# Altium schematic symbol library sbattery.SchLib: 19 symbols (part 1 of 2)
Pins are listed as number, name and electrical type; pins without a type are passive.

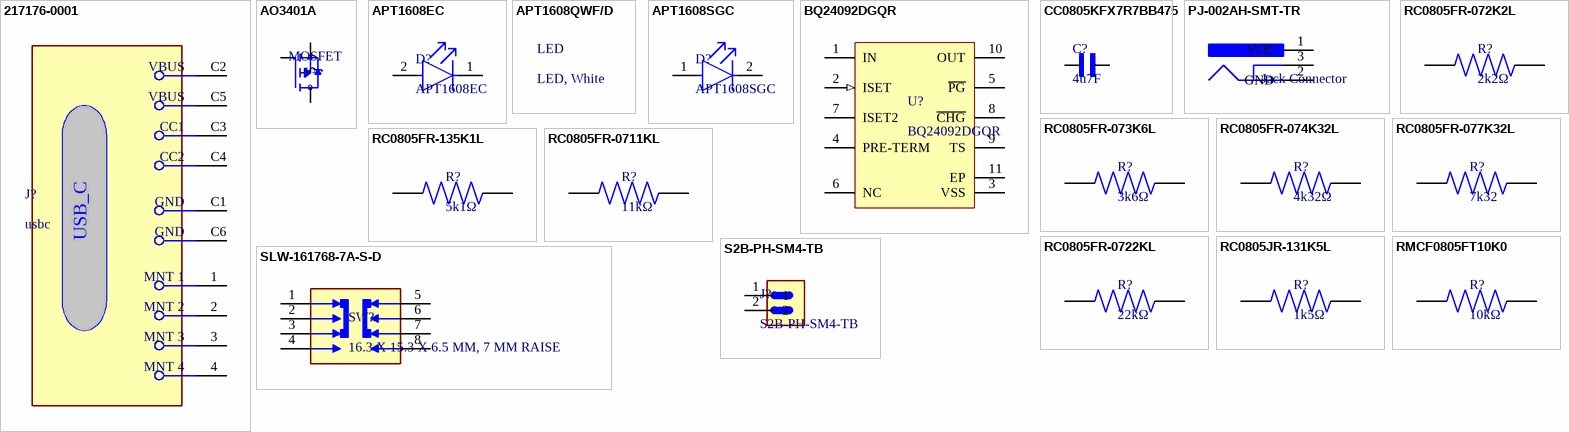
[diagram p0: symbols 217176-0001 to SLW-161768-7A-S-D]

## 217176-0001
designator J?, comment usbc
USB Connector, Receptacle, USB 2.0, USB Type C, 6 Ways, Gold, SMT, Right Angle, Copper Alloy; Manufacturer: Molex; Manufacturer Part Number: 217176-0001; Manufacturer Lifecycle Status: ACTIVE; Contact Resistance: 50mΩ; Current Rating: 1.25A; Gender: Female; Insulation Resistance: 100MΩ; Number of Contacts: 6; Number of Ports: 1; Plating Thickness: 25.4nm; USB Standard: USB 2.0; Voltage Rating: 30V; Supplier: Avnet; Supplier Part Number: 217176-0001; RoHS: Compliant; Category: USB Connectors; Stock: 32400; Pricing: 3600=1.1115, 10800=0.95376, 21600=0.91268, 43200=0.84734, 100800=0.8202 (USD); China RoHS: Compliant; Contact Material: Gold, Nickel; Country of Origin: Mainland China; Export Control Classification Number (ECCN) Code: EAR99; Harmonized Tariff Schedule (HTS) Code: 8536.69.40.30; Insulation Color: Black; Introduction Date: 2021-08-26; Lifecycle Status: Production; Max Operating Temperature: 85°C; Min Operating Temperature: -40°C; Pins: 6; Number of Positions: 6; Number of Rows: 1; Orientation: Right Angle; REACH SVHC: Unaffected; Shell Finish: Nickel; Shell Material: Stainless Steel; Terminal Pitch: 1.02mm; ComponentLink1URL: https://sigma.octopart.com:443/158830329/technical_drawing/Molex-217176-0001.pdf?src-supplier=Upverter; ComponentLink1Description: https://sigma.octopart.com:443/158830329/technical_drawing/Molex-217176-0001.pdf?src-supplier=Upverter; ComponentLink2URL: https://datasheet.octopart.com:443/217176-0001-Molex-datasheet-164573281.pdf?src-supplier=RS+(Formerly+Allied+Electronics); ComponentLink2Description: https://datasheet.octopart.com:443/217176-0001-Molex-datasheet-164573281.pdf?src-supplier=RS+(Formerly+Allied+Electronics); ComponentLink3URL: http://sigma.octopart.com:80/reach_statement/Molex-company-74.pdf?src-supplier=Compliance+Statements; ComponentLink3Description: http://sigma.octopart.com:80/reach_statement/Molex-company-74.pdf?src-supplier=Compliance+Statements; ComponentLink4URL: http://sigma.octopart.com:80/rohs_statement/Molex-company-73.pdf?src-supplier=Compliance+Statements; ComponentLink4Description: http://sigma.octopart.com:80/rohs_statement/Molex-company-73.pdf?src-supplier=Compliance+Statements; ComponentLink5URL: http://sigma.octopart.com:80/conflict_mineral_statement/Molex-company-72.pdf?src-supplier=Compliance+Statements; ComponentLink5Description: http://sigma.octopart.com:80/conflict_mineral_statement/Molex-company-72.pdf?src-supplier=Compliance+Statements; LCSC part#: C3197950
footprint FP-217176-0001-MFG
pins: 1 MNT 1, 2 MNT 2, 3 MNT 3, 4 MNT 4, C1 GND (power), C2 VBUS, C3 CC1, C4 CC2, C5 VBUS, C6 GND (power)
text: USB_C

## AO3401A
designator MOSFET, comment P CHANNEL  (value not drawn)
Transistor: P-MOSFET; unipolar; -30V; 4, 2A; 1, 4W; 85 mOhm; ; -55+150 st.C; SMD; SOT23; Manufacturer: Alpha & Omega Semiconductor; Manufacturer Part Number: AO3401A; Continuous Drain Current (ID): 4A; Drain to Source Resistance: 50mΩ; Gate to Source Voltage (Vgs): 12V; Input Capacitance: 1.2nF; Max Junction Temperature (Tj): 150°C; Max Power Dissipation: 1.4W; Min Breakdown Voltage: 30V; Number of Channels: 1; Rds On Max: 44mΩ; Threshold Voltage: -900mV; Turn-Off Delay Time: 41ns; Turn-On Delay Time: 6.5ns; Supplier: DigiKey; Supplier Part Number: 785-1001-1-ND; RoHS: Compliant; Category: MOSFETs; Stock: 390499; Pricing: 1=0.52, 10=0.322, 50=0.2332, 100=0.2043, 500=0.15316 (USD); Case/Package: TO-236-3; Country of Origin: Mainland China; Drain to Source Breakdown Voltage: -30V; Drain to Source Voltage (Vds): -30V; Export Control Classification Number (ECCN) Code: EAR99; Height: 1.25mm; Introduction Date: 2007-04-10; Lead Free: Lead Free; Lifecycle Status: Production; Max Operating Temperature: 150°C; Min Operating Temperature: -55°C; Mounting Technology: Surface Mount; Number of Elements: 1; Pins: 3; Number of Terminals: 3; Power Dissipation: 1.4W; Radiation Hardening: No; REACH SVHC: Unaffected; Schedule B: 8541290080, 8541290080|8541290080|8541290080|8541290080|8541290080; ComponentLink1URL: https://datasheet.octopart.com:443/AO3401A-Alpha-%26-Omega-Semiconductor-datasheet-11631723.pdf?src-supplier=IHS; ComponentLink1Description: https://datasheet.octopart.com:443/AO3401A-Alpha-%26-Omega-Semiconductor-datasheet-11631723.pdf?src-supplier=IHS; ComponentLink2URL: https://sigma.octopart.com:443/138895710/technical_drawing/Alpha-%26-Omega-Semiconductor-AO3401A.pdf?src-supplier=Upverter; ComponentLink2Description: https://sigma.octopart.com:443/138895710/technical_drawing/Alpha-%26-Omega-Semiconductor-AO3401A.pdf?src-supplier=Upverter; ComponentLink3URL: https://sigma.octopart.com:443/140150677/technical_drawing/Alpha-%26-Omega-Semiconductor-AO3401A.pdf?src-supplier=Alpha+%26+Omega+Semiconductor+SCT; ComponentLink3Description: https://sigma.octopart.com:443/140150677/technical_drawing/Alpha-%26-Omega-Semiconductor-AO3401A.pdf?src-supplier=Alpha+%26+Omega+Semiconductor+SCT; ComponentLink4URL: https://datasheet.octopart.com:443/AO3401A-Alpha-%26-Omega-Semiconductor-datasheet-14060796.pdf?src-supplier=iiiC; ComponentLink4Description: https://datasheet.octopart.com:443/AO3401A-Alpha-%26-Omega-Semiconductor-datasheet-14060796.pdf?src-supplier=iiiC; LCSC part#: C15127
footprint SOT23-3
pins: 1 G, 2 S, 3 D

## APT1608EC
designator D?
1.6X0.8 MM SMD CHIP LED LAMP Single Color LED, High Efficiency Red, Water Clear, 1.2mm; Manufacturer: Kingbright; Dominant Wavelength: 625nm; Forward Current: 30mA; Forward Voltage: 2.5V; Lens Style: Clear, Flat; Luminous Intensity: 12mcd; Max Junction Temperature (Tj): 125°C; Number of Circuits: 1; Peak Wavelength: 627nm; Power Dissipation: 75mW; Reverse Voltage: 5V; Shape: Rectangular; Test Current: 20mA; Viewing Angle: 120°; Wavelength: 617nm; Supplier: DigiKey; Supplier Part Number: 754-1117-1-ND; Manufacturer Part Number: APT1608EC; RoHS: Compliant; Category: LEDs; Stock: 214921; Pricing: 1=0.19, 10=0.129, 100=0.0899, 500=0.07172, 1000=0.06568 (USD); Case/Package: 0603; Case Code (Imperial): 0603; Case Code (Metric): 1608; China RoHS: Compliant; Color: Red; Country of Origin: Mainland China; Height: 750µm; Harmonized Tariff Schedule (HTS) Code: 8541.40.20.00; Illumination Color: Red; Introduction Date: 2000-01-01; Lead Free: Lead Free; Length: 1.6mm; Lens Color: Clear; Lifecycle Status: Production; Max Operating Temperature: 85°C; Min Operating Temperature: -40°C; Mounting Technology: Surface Mount; Number of LEDs: 1; Pins: 2; Number of Terminals: 2; Packaging: Tape & Reel (TR); REACH SVHC: Unaffected; Schedule B: 8541402000, 8541402000|8541402000, 8541402000|8541402000|8541402000, 8541402000|8541402000|8541402000|8541402000; Terminal Pitch: 1.3mm; Width: 800µm; ComponentLink1URL: https://datasheet.octopart.com:443/APT1608EC-Kingbright-datasheet-180517227.pdf?src-supplier=IHS; ComponentLink1Description: https://datasheet.octopart.com:443/APT1608EC-Kingbright-datasheet-180517227.pdf?src-supplier=IHS; ComponentLink2URL: https://datasheet.octopart.com:443/APT1608EC-Kingbright-datasheet-158247.pdf?src-supplier=IHS; ComponentLink2Description: https://datasheet.octopart.com:443/APT1608EC-Kingbright-datasheet-158247.pdf?src-supplier=IHS; ComponentLink3URL: https://datasheet.octopart.com:443/APT1608EC-Kingbright-datasheet-12510518.pdf?src-supplier=Upverter; ComponentLink3Description: https://datasheet.octopart.com:443/APT1608EC-Kingbright-datasheet-12510518.pdf?src-supplier=Upverter; ComponentLink4URL: https://datasheet.octopart.com:443/APT1608EC-Kingbright-datasheet-137321905.pdf?src-supplier=Sager+Electronics; ComponentLink4Description: https://datasheet.octopart.com:443/APT1608EC-Kingbright-datasheet-137321905.pdf?src-supplier=Sager+Electronics; ComponentLink5URL: https://datasheet.octopart.com:443/APT1608EC-Kingbright-datasheet-9700807.pdf?src-supplier=RS+(Formerly+Allied+Electronics); ComponentLink5Description: https://datasheet.octopart.com:443/APT1608EC-Kingbright-datasheet-9700807.pdf?src-supplier=RS+(Formerly+Allied+Electronics); LCSC part#: C5554143
footprint FP-APT1608EC-MFG
pins: 1 C, 2 A

## APT1608QWF/D
designator LED, comment LED, White
Single Color LED, White, Fluorescent Yellow, 1.2mm; Manufacturer: Kingbright; Manufacturer Part Number: APT1608QWF/D; Forward Current: 30mA; Forward Voltage: 3.3V; Lens Style: Clear, Tinted; Luminous Intensity: 230mcd; Number of Circuits: 1; Shape: Rectangular; Test Current: 20mA; Viewing Angle: 120°; Supplier: DigiKey; Supplier Part Number: 754-APT1608QWF/DCT-ND; RoHS: Compliant; Category: LEDs; Stock: 22; Pricing: 1=0.45, 10=0.306, 100=0.219, 500=0.17944, 1000=0.16643 (USD); Case/Package: 0603; China RoHS: Compliant; Color: White; Country of Origin: Mainland China; Height: 750µm; Harmonized Tariff Schedule (HTS) Code: 8541.40.20.00; Introduction Date: 2009-10-23; Length: 1.6mm; Lifecycle Status: Production; Max Operating Temperature: 85°C; Min Operating Temperature: -40°C; Mounting Technology: Surface Mount; Number of Terminals: 2; Packaging: Tape & Reel (TR); REACH SVHC: Unaffected; Terminal Pitch: 1.65mm; Width: 800µm; ComponentLink1URL: https://datasheet.octopart.com:443/APT1608QWF-D-Kingbright-datasheet-180517259.pdf?src-supplier=IHS; ComponentLink1Description: https://datasheet.octopart.com:443/APT1608QWF-D-Kingbright-datasheet-180517259.pdf?src-supplier=IHS; ComponentLink2URL: https://datasheet.octopart.com:443/APT1608QWF-D-Kingbright-datasheet-137334071.pdf?src-supplier=Sager+Electronics; ComponentLink2Description: https://datasheet.octopart.com:443/APT1608QWF-D-Kingbright-datasheet-137334071.pdf?src-supplier=Sager+Electronics

## APT1608SGC
designator D?
LED High-Power Uni-Color Super Bright Green 565nm 2.2V 2-Pin Chip LED T/R; Manufacturer: Kingbright; Dominant Wavelength: 568nm; Forward Current: 25mA; Forward Voltage: 2.5V; Lens Color: Clear; Lens Style: Clear, Flat; Luminous Intensity: 10mcd; Max Junction Temperature (Tj): 110°C; Number of Circuits: 1; Power Dissipation: 62.5mW; Reverse Voltage: 5V; Shape: Rectangular; Test Current: 20mA; Viewing Angle: 120°; Supplier: DigiKey; Supplier Part Number: 754-1121-1-ND; Manufacturer Part Number: APT1608SGC; RoHS: Compliant; Category: LEDs; Stock: 1784429; Pricing: 1=0.2, 10=0.137, 100=0.0953, 500=0.07602, 1000=0.06962 (USD); Case/Package: 0603; Case Code (Imperial): 0603; Case Code (Metric): 1608; China RoHS: Compliant; Color: Green; Height: 750µm; Illumination Color: Green; Lead Free: Lead Free; Length: 1.6mm; Lifecycle Status: Production; Max Operating Temperature: 85°C; Min Operating Temperature: -40°C; Mounting Technology: Surface Mount; Number of LEDs: 1; Pins: 2; Number of Terminals: 2; Packaging: Tape & Reel (TR); Peak Wavelength: 565nm; REACH SVHC: Unaffected; Schedule B: 8541402000, 8541402000|8541402000|8541402000|8541402000|8541402000|8541402000|8541402000|8541402000|8541402000|8541402000|8541402000|8541402000|8541402000|8541402000|8541402000|8541402000|8541402000|8541402000|8541402000|8541402000|8541402000|8541402000|8541402000|85; Terminal Pitch: 1.65mm; Wavelength: 568nm; Width: 800µm; ComponentLink1URL: https://datasheet.octopart.com:443/APT1608SGC-Kingbright-datasheet-180517294.pdf?src-supplier=IHS; ComponentLink1Description: https://datasheet.octopart.com:443/APT1608SGC-Kingbright-datasheet-180517294.pdf?src-supplier=IHS; ComponentLink2URL: https://datasheet.octopart.com:443/APT1608SGC-Kingbright-datasheet-158301.pdf?src-supplier=IHS; ComponentLink2Description: https://datasheet.octopart.com:443/APT1608SGC-Kingbright-datasheet-158301.pdf?src-supplier=IHS; ComponentLink3URL: https://datasheet.octopart.com:443/APT1608SGC-Kingbright-datasheet-8328416.pdf?src-supplier=Upverter; ComponentLink3Description: https://datasheet.octopart.com:443/APT1608SGC-Kingbright-datasheet-8328416.pdf?src-supplier=Upverter; LCSC part#: C5875754
footprint FP-APT2012MGC-MFG
pins: 1 A, 2 C

## BQ24092DGQR
designator U?
1-cell, 1-A, Li-ion battery charger with operation over JEITA and 10kΩ NTC 10-HVSSOP -40 to 150; Manufacturer: Texas Instruments; Manufacturer Lifecycle Status: ACTIVE; Battery Pack Voltage: 4.2V; Fault Protection: Over Temperature, Over Voltage, Short Circuit; Interface: USB; Max Charge Current: 1A; Max Supply Voltage: 6.45V; Min Input Voltage: 4.5V; Min Supply Voltage: 3.5V; Number of Cells: 1; Supplier: DigiKey; Supplier Part Number: 296-41204-2-ND; Manufacturer Part Number: BQ24092DGQR; RoHS: Compliant; Category: Battery Management; Stock: 8548; Pricing: 2500=0.68891, 5000=0.67306, 7500=0.66512, 12500=0.65632 (USD); Case/Package: HTSSOP EP; Contact Plating: Gold; Height: 1.1mm; Lead Free: Lead Free; Length: 3mm; Lifecycle Status: Production; Max Operating Temperature: 125°C; Min Operating Temperature: -40°C; Pins: 10; Output Current: 1A; Output Voltage: 4.2V; Packaging: Tape & Reel (TR); Radiation Hardening: No; Schedule B: 8542390000, 8542390000|8542390000|8542390000|8542390000|8542390000; Thickness: 1.02mm; Width: 3mm; ComponentLink1URL: https://sigma.octopart.com:443/151908762/technical_drawing/Texas-Instruments-BQ24092DGQR.pdf?src-supplier=Texas+Instruments; ComponentLink1Description: https://sigma.octopart.com:443/151908762/technical_drawing/Texas-Instruments-BQ24092DGQR.pdf?src-supplier=Texas+Instruments; ComponentLink2URL: https://octopart.com:443/opatz8j6/c1?t=I4L_5yvCBpDFmJzBUD7xXRTyJHZFz8Vie7DDMexhgd_R5CVS8O1brsykVWSszK7PlQIjFRdFbRxs_cy10GZkWLPuEzsvgZTYF2NXEUHmN4sAQxE8bVBEcZC275qzirla-L-oJNJhEX5LmJmM2EXwk3EFsfYROaw8LmrFg9NhT1mx60rvpKNI9a36HI6ThgYwGQRStl18BqKQUrAbhSp5Wi_HxJff8WELpdCqiygBHP7SLygD4TmEifhtn01ouQFK53G1NLqB-fa8Ml_ZKfK0nFnib--2iALwfa4BBLIbsOyNQrybwu1ndBra9hRkefzWYbL7eDaQQPNTeA4Bly6oxRyA0mVZNRxcs2KHaGZXt2978JGPJtvfLop7MU-7fw_S1MKPRM0&src-supplier=Texas+Instruments; ComponentLink2Description: https://octopart.com:443/opatz8j6/c1?t=I4L_5yvCBpDFmJzBUD7xXRTyJHZFz8Vie7DDMexhgd_R5CVS8O1brsykVWSszK7PlQIjFRdFbRxs_cy10GZkWLPuEzsvgZTYF2NXEUHmN4sAQxE8bVBEcZC275qzirla-L-oJNJhEX5LmJmM2EXwk3EFsfYROaw8LmrFg9NhT1mx60rvpKNI9a36HI6ThgYwGQRStl18BqKQUrAbhSp5Wi_HxJff8WELpdCqiygBHP7SLygD4TmEifhtn01ouQFK53G1NLqB-fa8Ml_ZKfK0nFnib--2iALwfa4BBLIbsOyNQrybwu1ndBra9hRkefzWYbL7eDaQQPNTeA4Bly6oxRyA0mVZNRxcs2KHaGZXt2978JGPJtvfLop7MU-7fw_S1MKPRM0&src-supplier=Texas+Instruments; ComponentLink3URL: https://datasheet.octopart.com:443/BQ24092DGQR-Texas-Instruments-datasheet-41204735.pdf?src-supplier=Texas+Instruments; ComponentLink3Description: https://datasheet.octopart.com:443/BQ24092DGQR-Texas-Instruments-datasheet-41204735.pdf?src-supplier=Texas+Instruments; ComponentLink4URL: https://datasheet.octopart.com:443/BQ24092DGQR-Texas-Instruments-datasheet-34153142.pdf?src-supplier=Texas+Instruments; ComponentLink4Description: https://datasheet.octopart.com:443/BQ24092DGQR-Texas-Instruments-datasheet-34153142.pdf?src-supplier=Texas+Instruments; ComponentLink5URL: https://datasheet.octopart.com:443/BQ24092DGQR-Texas-Instruments-datasheet-17535491.pdf?src-supplier=Texas+Instruments; ComponentLink5Description: https://datasheet.octopart.com:443/BQ24092DGQR-Texas-Instruments-datasheet-17535491.pdf?src-supplier=Texas+Instruments; ComponentLink6URL: https://datasheet.octopart.com:443/BQ24092DGQR-Texas-Instruments-datasheet-13303862.pdf?src-supplier=Texas+Instruments; ComponentLink6Description: https://datasheet.octopart.com:443/BQ24092DGQR-Texas-Instruments-datasheet-13303862.pdf?src-supplier=Texas+Instruments; ComponentLink7URL: https://datasheet.octopart.com:443/BQ24092DGQR-Texas-Instruments-datasheet-13064149.pdf?src-supplier=Texas+Instruments; ComponentLink7Description: https://datasheet.octopart.com:443/BQ24092DGQR-Texas-Instruments-datasheet-13064149.pdf?src-supplier=Texas+Instruments; ComponentLink8URL: https://datasheet.octopart.com:443/BQ24092DGQR-Texas-Instruments-datasheet-13055535.pdf?src-supplier=Texas+Instruments; ComponentLink8Description: https://datasheet.octopart.com:443/BQ24092DGQR-Texas-Instruments-datasheet-13055535.pdf?src-supplier=Texas+Instruments; ComponentLink9URL: https://datasheet.octopart.com:443/BQ24092DGQR-Texas-Instruments-datasheet-11473890.pdf?src-supplier=Texas+Instruments; ComponentLink9Description: https://datasheet.octopart.com:443/BQ24092DGQR-Texas-Instruments-datasheet-11473890.pdf?src-supplier=Texas+Instruments; ComponentLink10URL: https://sigma.octopart.com:443/49250729/technical_drawing/Texas-Instruments-BQ24092DGQR.pdf?src-supplier=Texas+Instruments; ComponentLink10Description: https://sigma.octopart.com:443/49250729/technical_drawing/Texas-Instruments-BQ24092DGQR.pdf?src-supplier=Texas+Instruments; ComponentLink11URL: https://datasheet.octopart.com:443/BQ24092DGQR-Texas-Instruments-datasheet-10257820.pdf?src-supplier=Texas+Instruments; ComponentLink11Description: https://datasheet.octopart.com:443/BQ24092DGQR-Texas-Instruments-datasheet-10257820.pdf?src-supplier=Texas+Instruments; ComponentLink12URL: https://datasheet.octopart.com:443/BQ24092DGQR-Texas-Instruments-datasheet-164412855.pdf?src-supplier=SHENGYU+ELECTRONICS; ComponentLink12Description: https://datasheet.octopart.com:443/BQ24092DGQR-Texas-Instruments-datasheet-164412855.pdf?src-supplier=SHENGYU+ELECTRONICS; ComponentLink13URL: https://datasheet.octopart.com:443/BQ24092DGQR-Texas-Instruments-datasheet-137316104.pdf?src-supplier=Future+Electronics; ComponentLink13Description: https://datasheet.octopart.com:443/BQ24092DGQR-Texas-Instruments-datasheet-137316104.pdf?src-supplier=Future+Electronics; ComponentLink14URL: http://sigma.octopart.com:80/reach_statement/Texas-Instruments-company-64.pdf?src-supplier=Compliance+Statements; ComponentLink14Description: http://sigma.octopart.com:80/reach_statement/Texas-Instruments-company-64.pdf?src-supplier=Compliance+Statements; ComponentLink15URL: http://sigma.octopart.com:80/conflict_mineral_statement/Texas-Instruments-company-63.pdf?src-supplier=Compliance+Statements; ComponentLink15Description: http://sigma.octopart.com:80/conflict_mineral_statement/Texas-Instruments-company-63.pdf?src-supplier=Compliance+Statements; LCSC part#: C133237
footprint DGQ0010D_L
pins: 1 IN (power) "Input power, connected to external DC supply (AC adapter or USB port). Expected range of bypass capacitors 1uF to 10uF, connect from IN to VSS.", 2 ISET (in) "Programs the Fast-charge current setting. External resistor from ISET to VSS defines fast charge current value. Range is 10.8k (50mA) to 675 ohm (800mA).", 3 VSS (power) "Ground terminal", 4 PRE-TERM "Programs the Current Termination Threshold (5 to 50% of Iout which is set by ISET) and Sets the Pre- Charge Current to twice the Termination Current Level. Expected range of programming resistor is 1k to 10kohm (2k: Ipgm/10 (See Datasheet)", 5 ~{PG} (hiz) "Low (FET on) indicates the input voltage is above UVLO and the OUT (battery) voltage.", 6 NC "Do not make a connection to this pin (for internal use) - Do not route through this pin", 7 ISET2 "Programming the Input/Output Current Limit for the USB or Adaptor source: High = 500mAmax, Low = ISET, FLOAT = 100mA max.", 8 ~{CHG} (hiz) "Low (FET on) indicates charging and Open Drain (FET off) indicates no Charging or Charge complete.", 9 TS "Temperature sense pin connected to bq24090/2 -10k at 25degC NTC thermistor & bq24091/3 -100k at 25degC NTC thermistor, in the battery pack. Floating TS Pin or pulling High puts part in TTDM "Charger" Mode and disable TS (See Datasheet)", 10 OUT (power) "Battery Connection. System Load may be connected. Average load should not be excessive, allowing battery to charge within the 10 hour safety timer window. Expected range of bypass capacitors 1uF to 10uF.", 11 EP (power) "There is an internal electrical connection between the exposed thermal pad and the VSS pin of the device. The thermal pad must be connected to the same potential as the VSS pin on the printed circuit board. Do not use the (See Datasheet)"

## CC0805KFX7R7BB475
designator C?, comment 4u7F
Ceramic Capacitor, Ceramic, 16V, 10% +Tol, 10% -Tol, X7R, 0.15 TC, 4.7uF, Surface Mount, 0805; Manufacturer: Yageo Group; Manufacturer Part Number: CC0805KFX7R7BB475; Manufacturer Package Identifier: CC0805-0.85; Supplier: DigiKey; Supplier Part Number: 13-CC0805KFX7R7BB475TR-ND; RoHS: Compliant; Category: Ceramic Capacitors; Stock: 10000; Pricing: 10000=0.12617, 30000=0.11755 (USD); Value: 4.7uF; Case/Package: 0805; China RoHS: Compliant; Country of Origin: Mainland China, Taiwan; Dielectric: X7R; Dielectric Material: Ceramic; Export Control Classification Number (ECCN) Code: EAR99; Halogen Free: Halogen Free; Height: 1.25mm; Harmonized Tariff Schedule (HTS) Code: 8532.24.00.20; Introduction Date: 2013-05-20; Lead Free: Lead Free; Length: 2mm; Lifecycle Status: Production; Material: Ceramic; Max Operating Temperature: 125°C; Min Operating Temperature: -55°C; Mounting Technology: Surface Mount; Number of Terminals: 2; REACH SVHC: Unaffected; Voltage Rating: 16V; Voltage Rating (DC): 16V; Width: 1.25mm; ComponentLink1URL: https://datasheet.octopart.com:443/CC0805KFX7R7BB475-Yageo-datasheet-177165144.pdf?src-supplier=IHS; ComponentLink1Description: https://datasheet.octopart.com:443/CC0805KFX7R7BB475-Yageo-datasheet-177165144.pdf?src-supplier=IHS; ComponentLink2URL: https://datasheet.octopart.com:443/CC0805KFX7R7BB475-Yageo-datasheet-78855689.pdf?src-supplier=Upverter; ComponentLink2Description: https://datasheet.octopart.com:443/CC0805KFX7R7BB475-Yageo-datasheet-78855689.pdf?src-supplier=Upverter; ComponentLink3URL: https://datasheet.octopart.com:443/CC0805KFX7R7BB475-Yageo-datasheet-181969532.pdf?src-supplier=Farnell; ComponentLink3Description: https://datasheet.octopart.com:443/CC0805KFX7R7BB475-Yageo-datasheet-181969532.pdf?src-supplier=Farnell; ComponentLink4URL: https://datasheet.octopart.com/CC0805KFX7R7BB475-Yageo-datasheet-10883670.pdf; ComponentLink4Description: https://datasheet.octopart.com/CC0805KFX7R7BB475-Yageo-datasheet-10883670.pdf; ComponentLink5URL: http://sigma.octopart.com:80/conflict_mineral_statement/Yageo-company-3.pdf?src-supplier=Compliance+Statements; ComponentLink5Description: http://sigma.octopart.com:80/conflict_mineral_statement/Yageo-company-3.pdf?src-supplier=Compliance+Statements; ComponentLink6URL: http://sigma.octopart.com:80/rohs_statement/Yageo-company-2.pdf?src-supplier=Compliance+Statements; ComponentLink6Description: http://sigma.octopart.com:80/rohs_statement/Yageo-company-2.pdf?src-supplier=Compliance+Statements; LCSC part#: C20144929
footprint CAPC2012X88N
pins: 1, 2

## PJ-002AH-SMT-TR
designator J?, comment Jack Connector
2.0 x 6.5 mm, 5.0 A, Horizontal, Surface Mount (SMT), Dc Power Jack Connector; Manufacturer: Same Sky; Manufacturer Part Number: PJ-002AH-SMT-TR; Current Rating: 5A; Inside Diameter: 2mm; Number of Conductors: 2; Outside Diameter: 6.5mm; Shielding: Unshielded; Voltage Rating: 24V; Supplier: DigiKey; Supplier Part Number: CP-002AHPJDKR-ND; RoHS: Compliant; Category: Power Connectors; Stock: 87808; Pricing: 1=1.31, 10=1.109, 25=1.0396, 50=0.99, 100=0.9426 (USD); Contact Plating: Silver; Country of Origin: Mainland China; Export Control Classification Number (ECCN) Code: EAR99; Harmonized Tariff Schedule (HTS) Code: 8536.69.40.20; Introduction Date: 2015-12-23; Lifecycle Status: Production; Max Operating Temperature: 85°C; Min Operating Temperature: -25°C; Mounting Technology: Surface Mount; Pins: 2; Orientation: Horizontal; REACH SVHC: Unaffected; Schedule B: 8536695050; Voltage Rating (DC): 24V; ComponentLink1URL: https://datasheet.octopart.com:443/PJ-002AH-SMT-TR-Same-Sky-datasheet-183081436.pdf?src-supplier=Same+Sky; ComponentLink1Description: https://datasheet.octopart.com:443/PJ-002AH-SMT-TR-Same-Sky-datasheet-183081436.pdf?src-supplier=Same+Sky; ComponentLink2URL: https://datasheet.octopart.com:443/PJ-002AH-SMT-TR-Same-Sky-datasheet-181917114.pdf?src-supplier=Same+Sky; ComponentLink2Description: https://datasheet.octopart.com:443/PJ-002AH-SMT-TR-Same-Sky-datasheet-181917114.pdf?src-supplier=Same+Sky; ComponentLink3URL: https://datasheet.octopart.com:443/PJ-002AH-SMT-TR-CUI-Devices-datasheet-175924689.pdf?src-supplier=Same+Sky; ComponentLink3Description: https://datasheet.octopart.com:443/PJ-002AH-SMT-TR-CUI-Devices-datasheet-175924689.pdf?src-supplier=Same+Sky; ComponentLink4URL: https://datasheet.octopart.com:443/PJ-002AH-SMT-TR-CUI-Devices-datasheet-137940666.pdf?src-supplier=Same+Sky; ComponentLink4Description: https://datasheet.octopart.com:443/PJ-002AH-SMT-TR-CUI-Devices-datasheet-137940666.pdf?src-supplier=Same+Sky; ComponentLink5URL: https://datasheet.octopart.com:443/PJ-002AH-SMT-TR-CUI-Devices-datasheet-180437148.pdf?src-supplier=IHS; ComponentLink5Description: https://datasheet.octopart.com:443/PJ-002AH-SMT-TR-CUI-Devices-datasheet-180437148.pdf?src-supplier=IHS; ComponentLink6URL: https://datasheet.octopart.com:443/PJ-002AH-SMT-TR-Same-Sky-datasheet-190141953.pdf?src-supplier=element14+APAC; ComponentLink6Description: https://datasheet.octopart.com:443/PJ-002AH-SMT-TR-Same-Sky-datasheet-190141953.pdf?src-supplier=element14+APAC; ComponentLink7URL: https://datasheet.octopart.com:443/PJ-002AH-SMT-TR-Same-Sky-datasheet-182880855.pdf?src-supplier=Electro+Sonic; ComponentLink7Description: https://datasheet.octopart.com:443/PJ-002AH-SMT-TR-Same-Sky-datasheet-182880855.pdf?src-supplier=Electro+Sonic; ComponentLink8URL: https://datasheet.octopart.com:443/PJ-002AH-SMT-TR-CUI-Devices-datasheet-175925525.pdf?src-supplier=Master+Electronics; ComponentLink8Description: https://datasheet.octopart.com:443/PJ-002AH-SMT-TR-CUI-Devices-datasheet-175925525.pdf?src-supplier=Master+Electronics; ComponentLink9URL: https://datasheet.octopart.com:443/PJ-002AH-SMT-TR-CUI-Devices-datasheet-141000103.pdf?src-supplier=Master+Electronics; ComponentLink9Description: https://datasheet.octopart.com:443/PJ-002AH-SMT-TR-CUI-Devices-datasheet-141000103.pdf?src-supplier=Master+Electronics; ComponentLink10URL: https://datasheet.octopart.com:443/PJ-002AH-SMT-TR-CUI-Devices-datasheet-103108616.pdf?src-supplier=Master+Electronics; ComponentLink10Description: https://datasheet.octopart.com:443/PJ-002AH-SMT-TR-CUI-Devices-datasheet-103108616.pdf?src-supplier=Master+Electronics; ComponentLink11URL: https://datasheet.octopart.com:443/PJ-002AH-SMT-TR-Same-Sky-datasheet-189105089.pdf?src-supplier=Master+Electronics; ComponentLink11Description: https://datasheet.octopart.com:443/PJ-002AH-SMT-TR-Same-Sky-datasheet-189105089.pdf?src-supplier=Master+Electronics; ComponentLink12URL: https://datasheet.octopart.com:443/PJ-002AH-SMT-TR-Same-Sky-datasheet-182049753.pdf?src-supplier=Future+Electronics; ComponentLink12Description: https://datasheet.octopart.com:443/PJ-002AH-SMT-TR-Same-Sky-datasheet-182049753.pdf?src-supplier=Future+Electronics; ComponentLink13URL: https://datasheet.octopart.com:443/PJ-002AH-SMT-TR-CUI-Devices-datasheet-175923546.pdf?src-supplier=Future+Electronics; ComponentLink13Description: https://datasheet.octopart.com:443/PJ-002AH-SMT-TR-CUI-Devices-datasheet-175923546.pdf?src-supplier=Future+Electronics; ComponentLink14URL: https://datasheet.octopart.com:443/PJ-002AH-SMT-TR-CUI-Devices-datasheet-137760669.pdf?src-supplier=Future+Electronics; ComponentLink14Description: https://datasheet.octopart.com:443/PJ-002AH-SMT-TR-CUI-Devices-datasheet-137760669.pdf?src-supplier=Future+Electronics; ComponentLink15URL: https://datasheet.octopart.com:443/PJ-002AH-SMT-TR-CUI-Devices-datasheet-175927503.pdf?src-supplier=CUI+Devices+SCT; ComponentLink15Description: https://datasheet.octopart.com:443/PJ-002AH-SMT-TR-CUI-Devices-datasheet-175927503.pdf?src-supplier=CUI+Devices+SCT; ComponentLink16URL: https://datasheet.octopart.com:443/PJ-002AH-SMT-TR-CUI-Devices-datasheet-142370533.pdf?src-supplier=CUI+Devices+SCT; ComponentLink16Description: https://datasheet.octopart.com:443/PJ-002AH-SMT-TR-CUI-Devices-datasheet-142370533.pdf?src-supplier=CUI+Devices+SCT; ComponentLink17URL: https://octopart.com:443/opatz8j6/c1?t=kYIPSAR_gxUrGLbD9baLFzEuLKDMD5QbHOfTDtLDkIqxLNdFXvSU7Zzvbvr2f7sXWfJxGRNhyTJmv_QM2CcXh6cB5txDjHKaRxA5LmQs8X3aOvPrphm1D1Gy4PUj3vydGShGnZzSROeM_0jDyTswWqCxsUuZ_G6TA39kgUgXMsYisotAvci6PBnwfHqprWkdovafhHLXXr438B9LgzH30NnnvdlFCxTuLfhx65YnuPwilhRuSo-RN6yLVuYx4bYU1Kz2gKifPRymKpwQpeAPMT-vPCIQg4kms4wOaB4PSnPbik8Fpc3R-s-2nw5NXz5D3_1YqpzlG--L1JdtoD8M3IP8kJK4AiMg9MwAvbI&src-supplier=Compliance+Statements; ComponentLink17Description: https://octopart.com:443/opatz8j6/c1?t=kYIPSAR_gxUrGLbD9baLFzEuLKDMD5QbHOfTDtLDkIqxLNdFXvSU7Zzvbvr2f7sXWfJxGRNhyTJmv_QM2CcXh6cB5txDjHKaRxA5LmQs8X3aOvPrphm1D1Gy4PUj3vydGShGnZzSROeM_0jDyTswWqCxsUuZ_G6TA39kgUgXMsYisotAvci6PBnwfHqprWkdovafhHLXXr438B9LgzH30NnnvdlFCxTuLfhx65YnuPwilhRuSo-RN6yLVuYx4bYU1Kz2gKifPRymKpwQpeAPMT-vPCIQg4kms4wOaB4PSnPbik8Fpc3R-s-2nw5NXz5D3_1YqpzlG--L1JdtoD8M3IP8kJK4AiMg9MwAvbI&src-supplier=Compliance+Statements; ComponentLink18URL: https://octopart.com:443/opatz8j6/c1?t=fCyWSj1jxHABX9bt1We-nBaONF-MKDyrdplWq9Ug6JX_mli73eFFCsHYdxw9c0yzn_n1hCXT5_MgR08zVo_XE-0LRftrscC4ncIG4fChnThfa4QkZ7D2kog3cmEkcq4mR6SQXbgR_BVap4JxImoweEwxe7EsrUn-gPrEzMW2H8ciz9OuWAMpPZ_4ifjdUiW6Du80lifleXXgru2rFP4QuH4Xg6petDpd_ciFnpWCXseW6pV3jSW7cwaSt3UROAB3Rgj_aBuMIzOubfE_Z-csyZ2KwTmrt1iiK2dgwigDFraz9g52IgOt5U_Koq0hn0IZE5PScfFEQBZO3DXy-6P3QmCScIzCxDK0aqapQeudmZ-b&src-supplier=Compliance+Statements; ComponentLink18Description: https://octopart.com:443/opatz8j6/c1?t=fCyWSj1jxHABX9bt1We-nBaONF-MKDyrdplWq9Ug6JX_mli73eFFCsHYdxw9c0yzn_n1hCXT5_MgR08zVo_XE-0LRftrscC4ncIG4fChnThfa4QkZ7D2kog3cmEkcq4mR6SQXbgR_BVap4JxImoweEwxe7EsrUn-gPrEzMW2H8ciz9OuWAMpPZ_4ifjdUiW6Du80lifleXXgru2rFP4QuH4Xg6petDpd_ciFnpWCXseW6pV3jSW7cwaSt3UROAB3Rgj_aBuMIzOubfE_Z-csyZ2KwTmrt1iiK2dgwigDFraz9g52IgOt5U_Koq0hn0IZE5PScfFEQBZO3DXy-6P3QmCScIzCxDK0aqapQeudmZ-b&src-supplier=Compliance+Statements; ComponentLink19URL: https://octopart.com:443/opatz8j6/c1?t=0G-ZbAozWDGaR5fAvdYjYVtahk3gonqNyEJgXYJdug8omsuN04aVXyE58rj41QlRKAj4lmPkVISqHmGdARiA99ILvFFkrrxah6GHPw6icDB6trS5MVDK3fgU_a4dZEeAnpK2Ogvp-0yutgNUwIMmgdbXs2uUjS2mosDdu4tICyz8yilXvZVabm6iwhWmm8-jY6OOJQggx-TMn65xiw5RMquBda3qZwV9eRGf3QHlh-G12LhJ3Hu32jBT-ZU5ne2OObtiOfBcZ5xkNxnCIi8vCc_XFZUgAheXvRHUilqF4Lu3rtnHWfWuyEiixHsIJalKzzqq94ThQJalGNRoZr9AuwcZBJKcZfHq-pyA3Uw&src-supplier=Compliance+Statements; ComponentLink19Description: https://octopart.com:443/opatz8j6/c1?t=0G-ZbAozWDGaR5fAvdYjYVtahk3gonqNyEJgXYJdug8omsuN04aVXyE58rj41QlRKAj4lmPkVISqHmGdARiA99ILvFFkrrxah6GHPw6icDB6trS5MVDK3fgU_a4dZEeAnpK2Ogvp-0yutgNUwIMmgdbXs2uUjS2mosDdu4tICyz8yilXvZVabm6iwhWmm8-jY6OOJQggx-TMn65xiw5RMquBda3qZwV9eRGf3QHlh-G12LhJ3Hu32jBT-ZU5ne2OObtiOfBcZ5xkNxnCIi8vCc_XFZUgAheXvRHUilqF4Lu3rtnHWfWuyEiixHsIJalKzzqq94ThQJalGNRoZr9AuwcZBJKcZfHq-pyA3Uw&src-supplier=Compliance+Statements; ComponentLink20URL: https://octopart.com:443/opatz8j6/c1?t=O9FJ77n277rZYT1vkW-sWDyE1Ea4dVQNwVeXrCs_O4FYIapCNdmThiJo2jJrijPrL5plgIdh588x2jFYVz6_ITNsv76ycHfSK8IUBrcl_7pxBzvZPRWXWk3EBfsemLjM5yV3VaWa1Vo-8vRT0cyQB5zJkMm-fcl1dDgpq3pzZBR-jy3vPTE_fAtu0Xoza9pCNi_-J4HQu4RdNbXTh_Ts3xIhgv7O5lVkarbUzKhnZRmGVQS2fagVjKU-i7LcVv1hTKNIVRxniNVql0YCjdDdjd0--Hqa6cpsza62t2-gsN6fkLgXXcnbAoJISjka-kHDmTuIB7ntE-61a8hiS-W_NX0-Y6auNOsYkr9uJQIUeTVs&src-supplier=Compliance+Statements; ComponentLink20Description: https://octopart.com:443/opatz8j6/c1?t=O9FJ77n277rZYT1vkW-sWDyE1Ea4dVQNwVeXrCs_O4FYIapCNdmThiJo2jJrijPrL5plgIdh588x2jFYVz6_ITNsv76ycHfSK8IUBrcl_7pxBzvZPRWXWk3EBfsemLjM5yV3VaWa1Vo-8vRT0cyQB5zJkMm-fcl1dDgpq3pzZBR-jy3vPTE_fAtu0Xoza9pCNi_-J4HQu4RdNbXTh_Ts3xIhgv7O5lVkarbUzKhnZRmGVQS2fagVjKU-i7LcVv1hTKNIVRxniNVql0YCjdDdjd0--Hqa6cpsza62t2-gsN6fkLgXXcnbAoJISjka-kHDmTuIB7ntE-61a8hiS-W_NX0-Y6auNOsYkr9uJQIUeTVs&src-supplier=Compliance+Statements; LCSC part#: C2961147
footprint CUI_PJ-002AH-SMT-TR
pins: 1 VCC, 2 GND, 3

## RC0805FR-072K2L
designator R?, comment 2k2Ω
125Mw Thick Film Resistors 100Ppm/ 1% 2.2K 0805 Chip Resistor Surface Mount Rohs; Manufacturer: Yageo Group; Manufacturer Part Number: RC0805FR-072K2L; Value: 2.2kΩ; Temperature Coefficient: 100ppm/°C; Voltage Rating: 150V; Supplier: DigiKey; Supplier Part Number: 311-2.20KCRCT-ND; RoHS: Compliant; Category: Chip SMD Resistors; Stock: 451947; Pricing: 1=0.1, 10=0.034, 25=0.0256, 50=0.0208, 100=0.0171, 250=0.01344, 500=0.01136, 1000=0.00973 (USD); Case/Package: 0805; Case Code (Imperial): 0805; China RoHS: Non-Compliant; Composition: Thick Film; Contact Plating: Tin; Depth: 1.25mm; Features: Moisture Resistant; Height: 500µm; Lead Free: Lead Free; Lead Pitch: 400µm; Length: 2mm; Lifecycle Status: Production; Max Operating Temperature: 155°C; Max Power Dissipation: 125mW; Military Standard: Not; Min Operating Temperature: -55°C; Mounting Technology: Surface Mount; Pins: 2; Number of Terminals: 2; Number of Terminations: 2; Packaging: Tape & Reel; Power Rating: 125mW; Radiation Hardening: No; REACH SVHC: Unaffected; Schedule B: 8533210045, 8533210045|8533210045, 8533210045|8533210045|8533210045, 8533210045|8533210045|8533210045|8533210045; Termination: SMD/SMT; Tolerance: 1%; Voltage Rating (AC): 150V; Voltage Rating (DC): 150V; Width: 1.25mm; Working Voltage: 150V; ComponentLink1URL: https://datasheet.octopart.com:443/RC0805FR-072K2L-Yageo-datasheet-175887523.pdf?src-supplier=element14+APAC; ComponentLink1Description: https://datasheet.octopart.com:443/RC0805FR-072K2L-Yageo-datasheet-175887523.pdf?src-supplier=element14+APAC; ComponentLink2URL: https://datasheet.octopart.com:443/RC0805FR-072K2L-Yageo-datasheet-62067350.pdf?src-supplier=element14+APAC; ComponentLink2Description: https://datasheet.octopart.com:443/RC0805FR-072K2L-Yageo-datasheet-62067350.pdf?src-supplier=element14+APAC; ComponentLink3URL: https://datasheet.octopart.com:443/RC0805FR-072K2L-Yageo-datasheet-103092701.pdf?src-supplier=Upverter; ComponentLink3Description: https://datasheet.octopart.com:443/RC0805FR-072K2L-Yageo-datasheet-103092701.pdf?src-supplier=Upverter; ComponentLink4URL: https://datasheet.octopart.com:443/RC0805FR-072K2L-Yageo-datasheet-8330313.pdf?src-supplier=Newark; ComponentLink4Description: https://datasheet.octopart.com:443/RC0805FR-072K2L-Yageo-datasheet-8330313.pdf?src-supplier=Newark; ComponentLink5URL: https://datasheet.octopart.com:443/RC0805FR-072K2L-Yageo-Group-datasheet-190305687.pdf?src-supplier=Newark; ComponentLink5Description: https://datasheet.octopart.com:443/RC0805FR-072K2L-Yageo-Group-datasheet-190305687.pdf?src-supplier=Newark; ComponentLink6URL: https://datasheet.octopart.com:443/RC0805FR-072K2L-Yageo-Group-datasheet-176638170.pdf?src-supplier=Future+Electronics; ComponentLink6Description: https://datasheet.octopart.com:443/RC0805FR-072K2L-Yageo-Group-datasheet-176638170.pdf?src-supplier=Future+Electronics; ComponentLink7URL: https://datasheet.octopart.com:443/RC0805FR-072K2L-Yageo-datasheet-164759695.pdf?src-supplier=Future+Electronics; ComponentLink7Description: https://datasheet.octopart.com:443/RC0805FR-072K2L-Yageo-datasheet-164759695.pdf?src-supplier=Future+Electronics; ComponentLink8URL: https://datasheet.octopart.com:443/RC0805FR-072K2L-Yageo-datasheet-12592811.pdf?src-supplier=Future+Electronics; ComponentLink8Description: https://datasheet.octopart.com:443/RC0805FR-072K2L-Yageo-datasheet-12592811.pdf?src-supplier=Future+Electronics; ComponentLink9URL: https://datasheet.octopart.com:443/RC0805FR-072K2L-Yageo-datasheet-8324252.pdf?src-supplier=Future+Electronics; ComponentLink9Description: https://datasheet.octopart.com:443/RC0805FR-072K2L-Yageo-datasheet-8324252.pdf?src-supplier=Future+Electronics; ComponentLink10URL: https://datasheet.octopart.com:443/RC0805FR-072K2L-Yageo-datasheet-79472498.pdf?src-supplier=Megastar; ComponentLink10Description: https://datasheet.octopart.com:443/RC0805FR-072K2L-Yageo-datasheet-79472498.pdf?src-supplier=Megastar; ComponentLink11URL: https://datasheet.octopart.com/RC0805FR-072K2L-Yageo-datasheet-73766026.pdf; ComponentLink11Description: https://datasheet.octopart.com/RC0805FR-072K2L-Yageo-datasheet-73766026.pdf; ComponentLink12URL: https://datasheet.octopart.com:443/RC0805FR-072K2L-Yageo-datasheet-13691069.pdf?src-supplier=Farnell; ComponentLink12Description: https://datasheet.octopart.com:443/RC0805FR-072K2L-Yageo-datasheet-13691069.pdf?src-supplier=Farnell; ComponentLink13URL: https://datasheet.octopart.com:443/RC0805FR-072K2L-Yageo-datasheet-118657.pdf?src-supplier=DigiKey; ComponentLink13Description: https://datasheet.octopart.com:443/RC0805FR-072K2L-Yageo-datasheet-118657.pdf?src-supplier=DigiKey; ComponentLink14URL: http://sigma.octopart.com:80/conflict_mineral_statement/Yageo-company-3.pdf?src-supplier=Compliance+Statements; ComponentLink14Description: http://sigma.octopart.com:80/conflict_mineral_statement/Yageo-company-3.pdf?src-supplier=Compliance+Statements; ComponentLink15URL: http://sigma.octopart.com:80/rohs_statement/Yageo-company-2.pdf?src-supplier=Compliance+Statements; ComponentLink15Description: http://sigma.octopart.com:80/rohs_statement/Yageo-company-2.pdf?src-supplier=Compliance+Statements; LCSC part#: C114561
footprint RESC2012X60N
pins: 1, 2

## RC0805FR-073K6L
designator R?, comment 3k6Ω
Res Thick Film 0805 3.6K Ohm 1% 0.125W(1/8W) ±100ppm/C Pad SMD T/R; Manufacturer: Yageo Group; Manufacturer Part Number: RC0805FR-073K6L; Manufacturer Package Identifier: 0805 (2012 metric); Max Power Dissipation: 125mW; Value: 3.6kΩ; Temperature Coefficient: 100ppm/°C; Voltage Rating: 150V; Supplier: DigiKey; Supplier Part Number: 311-3.60KCRDKR-ND; RoHS: Compliant; Category: Chip SMD Resistors; Stock: 58973; Pricing: 1=0.1, 10=0.034, 25=0.0256, 50=0.0208, 100=0.0171, 250=0.01344, 500=0.01136, 1000=0.00973 (USD); Case/Package: 0805; Case Code (Imperial): 0805; China RoHS: Non-Compliant; Composition: Thick Film; Country of Origin: Mainland China, Taiwan; Depth: 1.25mm; Export Control Classification Number (ECCN) Code: EAR99; Features: Moisture Resistant; Height: 500µm; Harmonized Tariff Schedule (HTS) Code: 8533.21.00.30; Introduction Date: 2004-09-22; Lead Free: Lead Free; Length: 2mm; Lifecycle Status: Production; Max Operating Temperature: 155°C; Military Standard: Not; Min Operating Temperature: -55°C; Mounting Technology: Surface Mount; Number of Terminals: 2; Number of Terminations: 2; Power Rating: 125mW; REACH SVHC: Unaffected; Schedule B: 8533210045, 8533210045|8533210045|8533210045|8533210045|8533210045|8533210045|8533210045|8533210045|8533210045|8533210045|8533210045|8533210045|8533210045, 8533210045|8533210045|8533210045|8533210045|8533210045|8533210045|8533210045|8533210045|8533210045|8533210045|8533210045|8533210045|8533210045|8533210045, 8533210045|8533210045|8533210045|8533210045|8533210045|8533210045|8533210045|8533210045|8533210045|8533210045|8533210045|8533210045|8533210045|8533210045|8533210045; Termination: SMD/SMT; Tolerance: 1%; Voltage Rating (DC): 150V; Width: 1.25mm; Working Voltage: 150V; ComponentLink1URL: https://datasheet.octopart.com:443/RC0805FR-073K6L-Yageo-datasheet-175887523.pdf?src-supplier=IHS; ComponentLink1Description: https://datasheet.octopart.com:443/RC0805FR-073K6L-Yageo-datasheet-175887523.pdf?src-supplier=IHS; ComponentLink2URL: https://datasheet.octopart.com:443/RC0805FR-073K6L-Yageo-datasheet-103092701.pdf?src-supplier=Upverter; ComponentLink2Description: https://datasheet.octopart.com:443/RC0805FR-073K6L-Yageo-datasheet-103092701.pdf?src-supplier=Upverter; ComponentLink3URL: https://datasheet.octopart.com:443/RC0805FR-073K6L-Yageo-datasheet-8330313.pdf?src-supplier=Burklin+Elektronik; ComponentLink3Description: https://datasheet.octopart.com:443/RC0805FR-073K6L-Yageo-datasheet-8330313.pdf?src-supplier=Burklin+Elektronik; ComponentLink4URL: https://datasheet.octopart.com:443/RC0805FR-073K6L-Yageo-Group-datasheet-176638170.pdf?src-supplier=Future+Electronics; ComponentLink4Description: https://datasheet.octopart.com:443/RC0805FR-073K6L-Yageo-Group-datasheet-176638170.pdf?src-supplier=Future+Electronics; ComponentLink5URL: https://datasheet.octopart.com:443/RC0805FR-073K6L-Yageo-datasheet-164759695.pdf?src-supplier=Future+Electronics; ComponentLink5Description: https://datasheet.octopart.com:443/RC0805FR-073K6L-Yageo-datasheet-164759695.pdf?src-supplier=Future+Electronics; ComponentLink6URL: https://datasheet.octopart.com:443/RC0805FR-073K6L-Yageo-datasheet-12592811.pdf?src-supplier=Future+Electronics; ComponentLink6Description: https://datasheet.octopart.com:443/RC0805FR-073K6L-Yageo-datasheet-12592811.pdf?src-supplier=Future+Electronics; ComponentLink7URL: https://datasheet.octopart.com:443/RC0805FR-073K6L-Yageo-datasheet-8324252.pdf?src-supplier=Future+Electronics; ComponentLink7Description: https://datasheet.octopart.com:443/RC0805FR-073K6L-Yageo-datasheet-8324252.pdf?src-supplier=Future+Electronics; ComponentLink8URL: https://datasheet.octopart.com/RC0805FR-073K6L-Yageo-datasheet-73766026.pdf; ComponentLink8Description: https://datasheet.octopart.com/RC0805FR-073K6L-Yageo-datasheet-73766026.pdf; ComponentLink9URL: https://datasheet.octopart.com:443/RC0805FR-073K6L-Yageo-datasheet-118657.pdf?src-supplier=DigiKey; ComponentLink9Description: https://datasheet.octopart.com:443/RC0805FR-073K6L-Yageo-datasheet-118657.pdf?src-supplier=DigiKey; ComponentLink10URL: http://sigma.octopart.com:80/conflict_mineral_statement/Yageo-company-3.pdf?src-supplier=Compliance+Statements; ComponentLink10Description: http://sigma.octopart.com:80/conflict_mineral_statement/Yageo-company-3.pdf?src-supplier=Compliance+Statements; ComponentLink11URL: http://sigma.octopart.com:80/rohs_statement/Yageo-company-2.pdf?src-supplier=Compliance+Statements; ComponentLink11Description: http://sigma.octopart.com:80/rohs_statement/Yageo-company-2.pdf?src-supplier=Compliance+Statements; LCSC part#: C137533
footprint RESC2012X60N
pins: 1, 2

## RC0805FR-074K32L
designator R?, comment 4k32Ω
Res Thick Film 0805 4.32K Ohm 1% 0.125W(1/8W) ±100ppm/C Pad SMD T/R; Manufacturer: Yageo Group; Manufacturer Part Number: RC0805FR-074K32L; Manufacturer Package Identifier: 0805 (2012 metric); Max Power Dissipation: 125mW; Value: 4.32kΩ; Temperature Coefficient: 100ppm/°C; Voltage Rating: 150V; Supplier: DigiKey; Supplier Part Number: 311-4.32KCRCT-ND; RoHS: Compliant; Category: Chip SMD Resistors; Stock: 2956; Pricing: 1=0.1, 10=0.034, 25=0.0256, 50=0.0208, 100=0.0171, 250=0.01344, 500=0.01136, 1000=0.00973 (USD); Case/Package: 0805; Case Code (Imperial): 0805; China RoHS: Non-Compliant; Composition: Thick Film; Contact Plating: Lead, Tin; Country of Origin: Mainland China, Taiwan; Depth: 1.25mm; Export Control Classification Number (ECCN) Code: EAR99; Features: Moisture Resistant; Height: 500µm; Harmonized Tariff Schedule (HTS) Code: 8533.21.00.30; Introduction Date: 2004-09-22; Lead Free: Lead Free; Length: 2mm; Lifecycle Status: Production; Max Operating Temperature: 155°C; Military Standard: Not; Min Operating Temperature: -55°C; Mounting Technology: Surface Mount; Number of Terminals: 2; Number of Terminations: 2; Power Rating: 125mW; Radiation Hardening: No; REACH SVHC: Unaffected; Schedule B: 8533210045, 8533210045|8533210045, 8533210045|8533210045|8533210045, 8533210045|8533210045|8533210045|8533210045; Termination: SMD/SMT; Tolerance: 1%; Voltage Rating (DC): 150V; Width: 1.25mm; Working Voltage: 150V; ComponentLink1URL: https://datasheet.octopart.com:443/RC0805FR-074K32L-Yageo-datasheet-175887523.pdf?src-supplier=IHS; ComponentLink1Description: https://datasheet.octopart.com:443/RC0805FR-074K32L-Yageo-datasheet-175887523.pdf?src-supplier=IHS; ComponentLink2URL: https://datasheet.octopart.com:443/RC0805FR-074K32L-Yageo-datasheet-103092701.pdf?src-supplier=Upverter; ComponentLink2Description: https://datasheet.octopart.com:443/RC0805FR-074K32L-Yageo-datasheet-103092701.pdf?src-supplier=Upverter; ComponentLink3URL: https://datasheet.octopart.com:443/RC0805FR-074K32L-Yageo-Group-datasheet-176638170.pdf?src-supplier=Future+Electronics; ComponentLink3Description: https://datasheet.octopart.com:443/RC0805FR-074K32L-Yageo-Group-datasheet-176638170.pdf?src-supplier=Future+Electronics; ComponentLink4URL: https://datasheet.octopart.com:443/RC0805FR-074K32L-Yageo-datasheet-164759695.pdf?src-supplier=Future+Electronics; ComponentLink4Description: https://datasheet.octopart.com:443/RC0805FR-074K32L-Yageo-datasheet-164759695.pdf?src-supplier=Future+Electronics; ComponentLink5URL: https://datasheet.octopart.com:443/RC0805FR-074K32L-Yageo-datasheet-12592811.pdf?src-supplier=Future+Electronics; ComponentLink5Description: https://datasheet.octopart.com:443/RC0805FR-074K32L-Yageo-datasheet-12592811.pdf?src-supplier=Future+Electronics; ComponentLink6URL: https://datasheet.octopart.com:443/RC0805FR-074K32L-Yageo-datasheet-8324252.pdf?src-supplier=Future+Electronics; ComponentLink6Description: https://datasheet.octopart.com:443/RC0805FR-074K32L-Yageo-datasheet-8324252.pdf?src-supplier=Future+Electronics; ComponentLink7URL: https://datasheet.octopart.com:443/RC0805FR-074K32L-Yageo-datasheet-8330313.pdf?src-supplier=Burklin+Elektronik; ComponentLink7Description: https://datasheet.octopart.com:443/RC0805FR-074K32L-Yageo-datasheet-8330313.pdf?src-supplier=Burklin+Elektronik; ComponentLink8URL: https://datasheet.octopart.com:443/RC0805FR-074K32L-Yageo-Group-datasheet-189192902.pdf?src-supplier=TME; ComponentLink8Description: https://datasheet.octopart.com:443/RC0805FR-074K32L-Yageo-Group-datasheet-189192902.pdf?src-supplier=TME; ComponentLink9URL: https://datasheet.octopart.com/RC0805FR-074K32L-Yageo-datasheet-73766026.pdf; ComponentLink9Description: https://datasheet.octopart.com/RC0805FR-074K32L-Yageo-datasheet-73766026.pdf; ComponentLink10URL: https://datasheet.octopart.com:443/RC0805FR-074K32L-Yageo-datasheet-118657.pdf?src-supplier=DigiKey; ComponentLink10Description: https://datasheet.octopart.com:443/RC0805FR-074K32L-Yageo-datasheet-118657.pdf?src-supplier=DigiKey; ComponentLink11URL: http://sigma.octopart.com:80/conflict_mineral_statement/Yageo-company-3.pdf?src-supplier=Compliance+Statements; ComponentLink11Description: http://sigma.octopart.com:80/conflict_mineral_statement/Yageo-company-3.pdf?src-supplier=Compliance+Statements; ComponentLink12URL: http://sigma.octopart.com:80/rohs_statement/Yageo-company-2.pdf?src-supplier=Compliance+Statements; ComponentLink12Description: http://sigma.octopart.com:80/rohs_statement/Yageo-company-2.pdf?src-supplier=Compliance+Statements; LCSC part#: C483139
footprint RESC2012X60N
footprint RESC2012X60N
pins: 1, 2